# Altium schematic symbol library Sensors.SchLib: 15 symbols
Pins are listed as number, name and electrical type; pins without a type are passive.

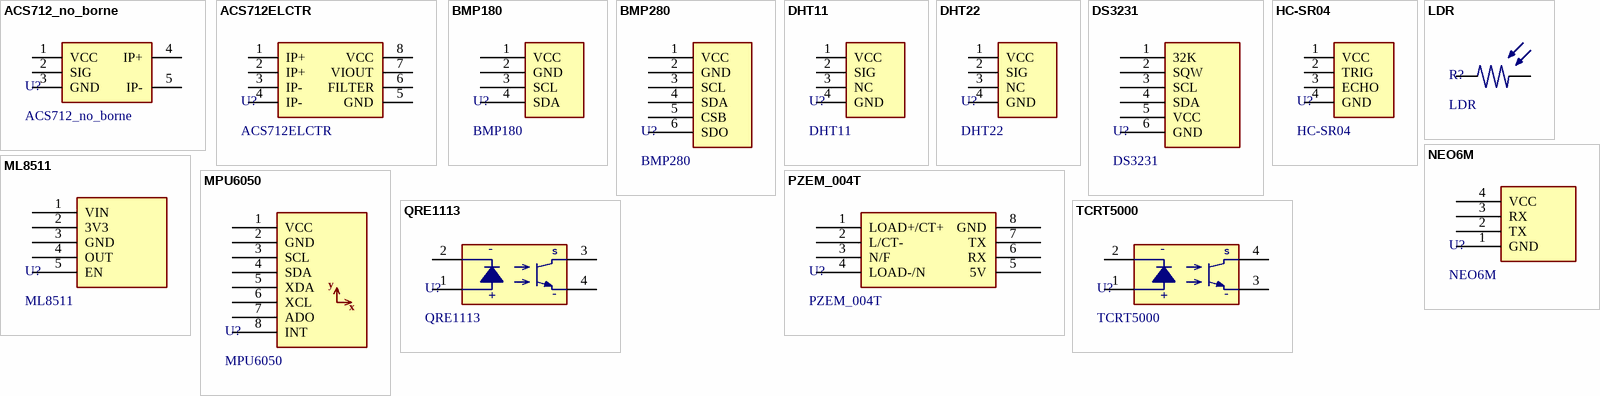
[diagram p0: symbols ACS712_no_borne to TCRT5000]

## ACS712_no_borne
designator U?
footprint ACS712_no_borne
pins: 1 VCC, 2 SIG, 3 GND, 4 IP+, 5 IP-

## ACS712ELCTR
designator U?
footprint ACS712ELCTR
pins: 1 IP+, 2 IP+, 3 IP-, 4 IP-, 5 GND, 6 FILTER, 7 VIOUT, 8 VCC

## BMP180
designator U?
SENSOR ATMOSPHERIC PRESSURE/TEMPERATURE
footprint BMP180
pins: 1 VCC, 2 GND, 3 SCL, 4 SDA

## BMP280
designator U?
SENSOR ATMOSPHERIC PRESSURE/TEMPERATURE/ALTITUDE
footprint BMP280 (SENSOR ATMOSPHERIC PRESSURE/TEMPERATURE/ALTITUDE)
pins: 1 VCC, 2 GND, 3 SCL, 4 SDA, 5 CSB, 6 SDO

## DHT11
designator U?
SENSOR HUMIDITY/TEMPERATURE; Digikey PN: 1528-1228-ND
footprint DHT11 (SENSOR HUMIDITY/TEMPERATURE)
pins: 1 VCC, 2 SIG, 3 NC, 4 GND

## DHT22
designator U?
SENSOR HUMIDITY/TEMPERATURE; Digikey PN: 1528-1228-ND
footprint DHT22_180
footprint DHT22_90
pins: 1 VCC, 2 SIG, 3 NC, 4 GND

## DS3231
designator U?
footprint DS3231
pins: 1 32K, 2 SQW, 3 SCL, 4 SDA, 5 VCC, 6 GND

## HC-SR04
designator U?
ULTRASONIC SENSOR 400CM; Digikey PN: 1568-1421-ND; Mouser PN: 375-HC-SR04
footprint HC-SR04 (ULTRASONIC SENSOR 400CM)
pins: 1 VCC, 2 TRIG, 3 ECHO, 4 GND

## LDR
designator R?
LIGHT DEPENDEND RESISTOR/PHOTORESITOR; Digikey PN: PDV-P8107-ND
footprint LDR (LIGHT DEPENDEND RESISTOR/PHOTORESITOR 3mm)
pins: 1, 2

## ML8511
designator U?
footprint ML8511
pins: 1 VIN, 2 3V3, 3 GND, 4 OUT, 5 EN

## MPU6050
designator U?
IMU ACCEL/GYRO 3-AXIS I2C; ComponentLink1Description: Datasheet; ComponentLink1URL: https://invensense.tdk.com/wp-content/uploads/2015/02/MPU-6000-Datasheet1.pdf
footprint MPU6050 (IMU ACCEL/GYRO 3-AXIS I2C)
pins: 1 VCC, 2 GND, 3 SCL, 4 SDA, 5 XDA, 6 XCL, 7 ADO, 8 INT
text: y; x

## NEO6M
designator U?
footprint NEO6M_UP
footprint NEO6M_DOWN
pins: 1 GND, 2 TX, 3 RX, 4 VCC

## PZEM_004T
designator U?
footprint PZEM_004T
pins: 1 LOAD+/CT+, 2 L/CT-, 3 N/F, 4 LOAD-/N, 5 5V, 6 RX, 7 TX, 8 GND

## QRE1113
designator U?
REFLECTIVE OPTICAL SENSOR SMD; Digikey PN: 512-QRE1113GR; ComponentLink1Description: Datasheet; ComponentLink1URL: https://br.mouser.com/datasheet/2/308/QRE1113_D-1814544.pdf; JLCPCB PN: C232862
footprint QRE1113 (REFLECTIVE OPTICAL SENSOR SMD)
pins: 1 VCC, 2 GND, 3 SIGNAL, 4 GND
text: -; S; +

## TCRT5000
designator U?
REFLECTIVE OPTICAL SENSOR PTH; Mouser PN: 782-TCRT5000; ComponentLink1Description: Datasheet; ComponentLink1URL: https://br.mouser.com/datasheet/2/427/tcrt5000-1767618.pdf; JLCPCB PN: C2984661
footprint TCRT5000 (REFLECTIVE OPTICAL SENSOR PTH)
pins: 1 VCC, 2 GND, 3 GND, 4 SIGNAL
text: -; S; +